# EAGLE library part K155ID1 (library microfarad-de)
K155ID1 A BCD-to-decimal decoder designed to drive gas-filled Nixie tubes
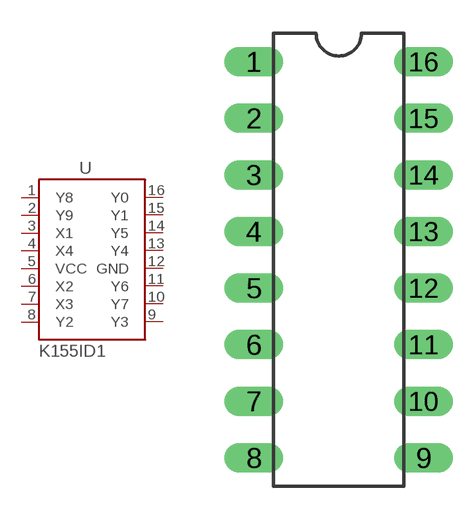
[diagram p1: symbol with the pads of DIL16; footprint DIL16]

Designator prefix U

## K155ID1  [DIL16]
1  Y8  out
2  Y9  out
3  X1  in
4  X4  in
5  VCC  pwr
6  X2  in
7  X3  in
8  Y2  out
9  Y3  out
10  Y7  out
11  Y6  out
12  GND  pwr
13  Y4  out
14  Y5  out
15  Y1  out
16  Y0  out

## Footprint DIL16 (pad centres in mm)
Dual In Line Package
drill 0.813 long: 1 -3.81,8.89; 2 -3.81,6.35; 3 -3.81,3.81; 4 -3.81,1.27; 5 -3.81,-1.27; 6 -3.81,-3.81; 7 -3.81,-6.35; 8 -3.81,-8.89; 9 3.81,-8.89; 10 3.81,-6.35; 11 3.81,-3.81; 12 3.81,-1.27; 13 3.81,1.27; 14 3.81,3.81; 15 3.81,6.35; 16 3.81,8.89